# Altium integrated library Altium_Krebyy_Library.IntLib: 67 symbols (part 1 of 3)
Pins are listed as number, name and electrical type; pins without a type are passive.

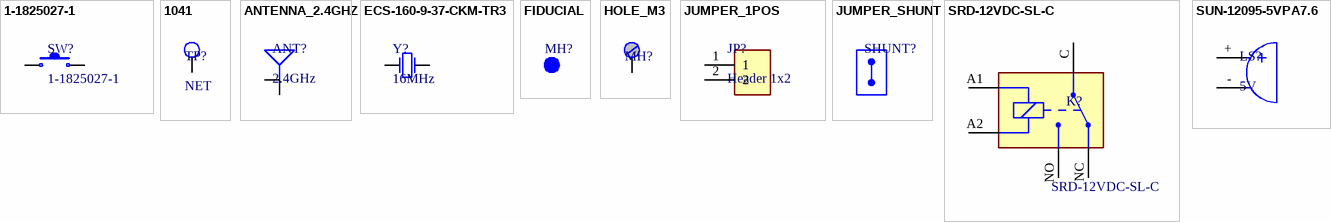
[diagram p0: symbols 1-1825027-1 to SUN-12095-5VPA7.6]

## 1-1825027-1
designator SW?
SWITCH TACTILE SPST-NO 5.74MM; Manufacturer: TE Connectivity; Actuator Color: Black; Mechanical Life: 100000Cycles; Actuator Material: PBT; Throw Configuration: SPST; Operating Force: 160gf; Illumination Type: Non-Illuminated; Max Voltage Rating (DC): 24V; Contact Current Rating: 50mA; Contact Resistance: 100mR; Switch Function: Off-Mom; Actuator Type: Standard; Switch Travel: 0.25mm; Supplier 1: Digi-Key; Manufacturer Part Number: 1-1825027-1; RoHS: Yes; Category: Pushbutton Switches; Stock 1: 125950; Pricing 1: 1=0,31000, 10=0,29500, 25=0,27960, 100=0,25320, 250=0,23084, 500=0,21456, 1000=0,18304, 3000=0,17795, 5000=0,16778 (USD); Mount: Through Hole; Contact Material: Copper Alloy; Contact Plating: Silver; Min Operating Temperature: -35°C; Max Operating Temperature: 85°C; Termination: PC Pins; Package Quantity: 1000; Packaging: Loose Piece; Orientation: Straight; Max Current Rating: 50mA; Electrical Life: 100000Cycles; Series: FSMRAJ, Alcoswitch; Type: Switch; Illumination Color: Black; Contact Type: 1 maker; Length: 7.11mm; Width: 6mm; Height: 7.3mm; Actuator Length: 5.74mm; Depth: 12.36mm; Radiation Hardening: No; RoHS Compliant: Yes; Lead Free: Lead Free; ELV: Compliant; ComponentLink1URL: https://datasheet.ciiva.com/30068/htmlsfsmra4jh04-0-30068654.pdf?src-supplier=Onlinecomponents.com; ComponentLink1Description: https://datasheet.ciiva.com/30068/htmlsfsmra4jh04-0-30068654.pdf?src-supplier=Onlinecomponents.com; ComponentLink2URL: https://datasheet.ciiva.com/17090/1-1825027-1-17090210.pdf?src-supplier=Allied+Electronics; ComponentLink2Description: https://datasheet.ciiva.com/17090/1-1825027-1-17090210.pdf?src-supplier=Allied+Electronics; ComponentLink3URL: https://datasheet.ciiva.com/26336/701759-da-01-en-tastschalter-fsmra4jh04-26336642.pdf?src-supplier=Conrad; ComponentLink3Description: https://datasheet.ciiva.com/26336/701759-da-01-en-tastschalter-fsmra4jh04-26336642.pdf?src-supplier=Conrad; ComponentLink4URL: https://datasheet.ciiva.com/16395/eng-cs-1308111-1-switches-core-program-catalog-0308-16395995.pdf?src-supplier=Future+Electronics; ComponentLink4Description: https://datasheet.ciiva.com/16395/eng-cs-1308111-1-switches-core-program-catalog-0308-16395995.pdf?src-supplier=Future+Electronics; ComponentLink5URL: https://datasheet.ciiva.com/15184/getdatasheetpartid-154947-15184428.pdf?src-supplier=Verical; ComponentLink5Description: https://datasheet.ciiva.com/15184/getdatasheetpartid-154947-15184428.pdf?src-supplier=Verical; ComponentLink6URL: https://datasheet.ciiva.com/45260/fsmseries-45260030.pdf?src-supplier=Digi-Key; ComponentLink6Description: https://datasheet.ciiva.com/45260/fsmseries-45260030.pdf?src-supplier=Digi-Key; Supplier 2: LCSC; Supplier Part Number 1: 450-1658-ND; Supplier Part Number 2: C266183; Case/Package: PTH-4
footprint SW_FSMRAJ
pins: 1, 2

## 1041
designator TP?, comment NET
TEST POINT LOOP; Manufacturer: Keystone Electronics; Manufacturer Part Number: 1041; Body Material: Brass; Plating: Tin; Hole Diameter: 1.27mm; Supplier 1: Digi-Key; RoHS: Yes; Category: Connectors; Stock 1: 18762; Pricing 1: 1=0,32000, 25=0,26320, 100=0,21480, 250=0,19288, 500=0,18410, 1000=0,15342, 2500=0,14027, 5000=0,13150 (USD); Mount: Through Hole,PCB; Contact Plating: Tin; Material: Brass,Tin; Contact Material: Brass; Package Quantity: 100; Series: -; Packaging: Bulk; Termination: Solder; Height: 0.63inch; RoHS Compliant: Yes; Lead Free: Lead Free; Reach SVHC Compliant: Yes; ComponentLink1URL: https://datasheet.ciiva.com/11836/0900766b800ac5a5-11836153.pdf?src-supplier=RSComponents; ComponentLink1Description: https://datasheet.ciiva.com/11836/0900766b800ac5a5-11836153.pdf?src-supplier=RSComponents; ComponentLink2URL: https://datasheet.ciiva.com/16291/m60-2p59-16291360.pdf?src-supplier=Future+Electronics; ComponentLink2Description: https://datasheet.ciiva.com/16291/m60-2p59-16291360.pdf?src-supplier=Future+Electronics; ComponentLink3URL: https://datasheet.ciiva.com/6946/m60p59-6946720.pdf?src-supplier=Newark; ComponentLink3Description: https://datasheet.ciiva.com/6946/m60p59-6946720.pdf?src-supplier=Newark; ComponentLink4URL: https://datasheet.ciiva.com/2917/1041-2917716.pdf?src-supplier=Digi-Key; ComponentLink4Description: https://datasheet.ciiva.com/2917/1041-2917716.pdf?src-supplier=Digi-Key; ComponentLink5URL: https://datasheet.ciiva.com/16885/70181606-16885226.pdf?src-supplier=Allied+Electronics; ComponentLink5Description: https://datasheet.ciiva.com/16885/70181606-16885226.pdf?src-supplier=Allied+Electronics; Supplier Part Number 1: 36-1041-ND; Case/Package: PTH-1
footprint TP_LOOP
pins: 1

## ANTENNA_2.4GHZ
designator ANT?, comment 2.4GHz  (no BOM)
SMALL SIZE 2.4 GHz PCB ANTENNA; Impedance: 50 Ohm; ComponentLink1Description: Datasheet; ComponentLink1URL: https://www.ti.com/lit/an/swra117d/swra117d.pdf; Category: Antenna; Frequency: 2.4GHz; Dimensions: 15.2 x 5.7 mm
footprint ANTENNA_2.4GHZ
pins: ANT, GND

## ECS-160-9-37-CKM-TR3
designator Y?, comment 16MHz
CRYSTAL 16.0000MHZ 10PPM 9PF SMD; Manufacturer: ECS International; Manufacturer Part Number: ECS-160-9-37-CKM-TR3; Supplier 1: Digi-Key; RoHS: No; Category: Crystal; Stock 1: 30907; Pricing 1: 1=0,42000, 10=0,35400, 50=0,31820, 100=0,28280, 500=0,26866, 1000=0,22624 (USD); Supplier Part Number 1: 50-ECS-160-9-37-CKM-TR3CT-ND; Case/Package: SMD-4
footprint CRYSTAL2016
pins: 1, 3

## FIDUCIAL
designator MH?, comment 1x2mm  (value not drawn)  (no BOM)
FIDUCIAL 1 X 2 MM; Category: Fiducials
footprint FIDUCIAL_1X2

## HOLE_M3
designator MH?, comment M3  (value not drawn)  (no BOM)
MOUNTING HOLE M3; Category: Mechanicals
footprint HOLE_M3
pins: 1

## JUMPER_1POS
designator JP?, comment Header 1x2
JUMPER 2PIN 1POS 2.54MM; Manufacturer: XFCN; Manufacturer Part Number: PZ254V-11-02P; Stock 1: 111950; Pricing 1: 50=0,01260, 500=0,01010, 2000=0,00870, 4000=0,00780, 24000=0,00710, 50000=0,00670 (USD); Category: Jumper; Supplier 1: LCSC; Supplier Part Number 1: C492401; Case/Package: PTH-2
footprint HEADER_1X2
pins: 1, 2

## JUMPER_SHUNT
designator SHUNT?
JUMPER SHUNT; Manufacturer: TE Connectivity AMP; Manufacturer Part Number: 881545-2; Supplier 1: Digi-Key; RoHS: Yes; Category: Jumper; Stock 1: 273858; Pricing 1: 1=0,32000, 10=0,27600, 25=0,24280, 50=0,22320, 100=0,21440, 250=0,19248, 500=0,18374, 1000=0,15312, 2500=0,14000 (USD); RoHS Compliant: Yes; ComponentLink1URL: https://www.te.com/commerce/DocumentDelivery/DDEController?Action=srchrtrv&amp;DocNm=881545&amp;DocType=Customer+Drawing&amp;DocLang=English&src-supplier=Digi-Key; ComponentLink1Description: https://www.te.com/commerce/DocumentDelivery/DDEController?Action=srchrtrv&amp;DocNm=881545&amp;DocType=Customer+Drawing&amp;DocLang=English&src-supplier=Digi-Key; Supplier Part Number 1: A26242-ND
footprint SHUNT

## SRD-12VDC-SL-C
designator K?, comment Manufacturer Part Number: SRD-12VDC-SL-C  (hidden comment: 12VDC)
RELAY 12V 15A SPDT; Manufacturer: Ningbo Forward Relay; Supplier 1: LCSC; RoHS: Yes; Category: Relays; Stock 1: 106554; Pricing 1: 1=0,35480, 10=0,28160, 30=0,24660, 100=0,21480, 500=0,20690, 1000=0,20050 (USD); Supplier Part Number 1: C30431; Maximum Switching Current: 15A; ComponentLink1Description: Datasheet; ComponentLink1URL: https://datasheet.lcsc.com/lcsc/1811111110_Ningbo-Songle-Relay-SRD-12VDC-SL-C_C30431.pdf; Coil Voltage: 12VDC; Case/Package: PTH-5
footprint RELAY_1C
pins: A1, A2, C, NC, NO

## SUN-12095-5VPA7.6
designator LS?, comment 5V
BUZZER MAGNETIC 5V 12MM PTH; Manufacturer: S&S; Manufacturer Part Number: SUN-12095-5VPA7.6; Oscillator Circuit: Active (driven circuit included); Frequency: 2700Hz; Pitch: 7.6mm; Supplier 1: LCSC; RoHS: Yes; Category: Audio Components; Stock 1: 20790; Pricing 1: 5=0,17770, 50=0,14110, 150=0,12330, 500=0,09670, 2500=0,09270, 5000=0,09040 (USD); Supplier Part Number 1: C360615; Height: 9.8mm; Diameter: 12mm; Rated  Voltage: 5V; ComponentLink1Description: Datasheet; ComponentLink1URL: https://datasheet.lcsc.com/lcsc/2108191230_S-S-SUN-12095-5VPA7-6_C360615.pdf; Case/Package: PTH-2
footprint BUZZER12076
pins: +, -


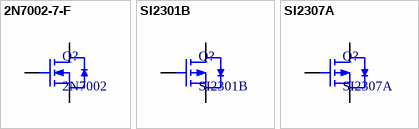
[diagram p1: symbols 2N7002-7-F to SI2307A]

## 2N7002-7-F
designator Q?, comment 2N7002
MOSFET N-CH 60V 115MA SOT23-3; Manufacturer: Diodes; Manufacturer Part Number: 2N7002-7-F; Nominal Vgs: 2.5V; Max Power Dissipation: 300mW; Rds On Max: 7.5R; Input Capacitance: 50pF; Number of Elements: 1; Drain to Source Breakdown Voltage: 70V; Gate to Source Voltage (Vgs): 20V; Turn-Off Delay Time: 11ns; Turn-On Delay Time: 7ns; Power Dissipation: 540mW; Element Configuration: Single; Polarity: N-CHANNEL; Rise Time: 3ns; Fall Time: 5.6ns; Supplier 1: Digi-Key; RoHS: Yes; Category: MOSFETs; Stock 1: 1719369; Pricing 1: 1=0,20000, 10=0,18600, 100=0,10140, 500=0,06236, 1000=0,04252 (USD); Mount: Surface Mount; Case/Package: SOT-23-3; Number of Pins: 3; Weight: 0.000282oz; Contact Plating: Tin,Matte; Min Operating Temperature: -55°C; Max Operating Temperature: 150°C; Drain to Source Voltage (Vdss): 60V; Continuous Drain Current (ID): 115mA; Packaging: Tape and Reel; Package Quantity: 1; Dual Supply Voltage: 60V; Number of Channels: 1; Drain to Source Resistance: 7.5R; On-State Resistance: 7.5R; Threshold Voltage: 2.5V; Termination: SMD/SMT; Voltage Rating (DC): 60V; Current Rating: 115mA; Series: -; Drain-source On Resistance-Max: 7.5R; Voltage: 60V; Length: 2.9mm; Width: 1.3mm; Height: 1mm; Radiation Hardening: No; Reach SVHC Compliant: Yes; Lead Free: Lead Free; RoHS Compliant: Yes; ComponentLink1URL: https://datasheet.ciiva.com/15219/getdatasheetpartid-110059-15219667.pdf?src-supplier=Verical; ComponentLink1Description: https://datasheet.ciiva.com/15219/getdatasheetpartid-110059-15219667.pdf?src-supplier=Verical; ComponentLink2URL: https://datasheet.ciiva.com/3304/ds11303-3304385.pdf?src-supplier=Avnet; ComponentLink2Description: https://datasheet.ciiva.com/3304/ds11303-3304385.pdf?src-supplier=Avnet; ComponentLink3URL: https://datasheet.ciiva.com/1188/ds11303-1188363.pdf?src-supplier=Element14; ComponentLink3Description: https://datasheet.ciiva.com/1188/ds11303-1188363.pdf?src-supplier=Element14; ComponentLink4URL: https://datasheet.ciiva.com/22712/1915452-22712375.pdf?src-supplier=Element14; ComponentLink4Description: https://datasheet.ciiva.com/22712/1915452-22712375.pdf?src-supplier=Element14; ComponentLink5URL: https://datasheet.ciiva.com/49020/70437206-49020102.pdf?src-supplier=Allied+Electronics; ComponentLink5Description: https://datasheet.ciiva.com/49020/70437206-49020102.pdf?src-supplier=Allied+Electronics; Supplier Part Number 1: 2N7002-FDICT-ND
footprint SOT-23-3
pins: 1 G, 2 S, 3 D

## SI2301B
designator Q?
MOSFET P-CH 20V 2.2A SOT23-3; Manufacturer: UWM; Continuous Drain Current (ID): 2.5A; Drain to Source Voltage (Vdss): -20V; Polarity: P-CHANNEL; Rds On Max: 120mR; Gate to Source Voltage (Vgs): 8V; Case/Package: SOT-23-3; Category: MOSFETs; Manufacturer Part Number: SI2301B; Drain to Source Breakdown Voltage: -20V; Supplier 1: LCSC; RoHS: Yes; Stock 1: 234500; Pricing 1: 20=0,018700, 200=0,015000, 600=0,012900, 3000=0,011600, 9000=0,010600, 21000=0,010000 (USD); Supplier Part Number 1: C359103; ComponentLink1Description: Datasheet; ComponentLink1URL: https://datasheet.lcsc.com/lcsc/2203071530_UMW-Youtai-Semiconductor-Co---Ltd--SI2301B_C359103.pdf
footprint SOT-23-3
pins: 1 G, 2 S, 3 D

## SI2307A
designator Q?
MOSFET P-CH 30V 3A SOT23-3; Manufacturer: UMW(Youtai Semiconductor Co., Ltd.); Supplier 1: LCSC; Manufacturer Part Number: SI2307A; Stock 1: 18550; Pricing 1: 10=0,04360, 100=0,03530, 300=0,03120, 3000=0,02810, 6000=0,02560, 9000=0,02440 (USD); Supplier Part Number 1: C347490; ComponentLink1Description: Datasheet; ComponentLink1URL: https://datasheet.lcsc.com/lcsc/2209201030_UMW-Youtai-Semiconductor-Co---Ltd--SI2307A_C347490.pdf; Category: MOSFETs; Case/Package: SOT-23-3
footprint SOT-23-3
pins: 1 G, 2 S, 3 D


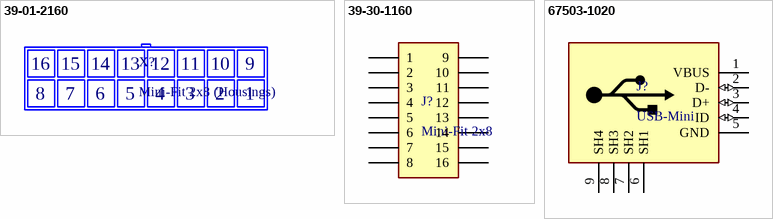
[diagram p2: symbols 39-01-2160 to 67503-1020]

## 39-01-2160
designator X?, comment Mini-Fit 2x8 (Housings)
CONN RCPT HSG 16POS 4.20MM; Manufacturer: Molex; Connector Type: Receptacle,Power,Rectangular; Gender: Receptacle; Max Voltage Rating (DC): 600V; Number of Positions: 16; Contact Resistance: 10mR; Current Rating: 13A; Voltage Rating (AC): 250V; Pitch: 4.2mm; Row Spacing: 0.165inch; Approvals: UL,CSA,TUV; Glow Wire Compliant: Non-compliant; Supplier 1: Digi-Key; Manufacturer Part Number: 39-01-2160; RoHS: Yes; Category: Headers and Wire Housings; Stock 1: 27697; Pricing 1: 1=0,76000, 10=0,63100, 100=0,52620, 1000=0,42097, 2500=0,38150 (USD); Mount: Free Hanging,Cable; Color: Natural; Housing Material: Nylon; Material: Nylon; Housing Color: Natural; Min Operating Temperature: -40°C; Max Operating Temperature: 105°C; Packaging: Bulk; Termination: Crimp; Orientation: Straight; Series: Mini-Fit® Jr™ 5557; Number of Rows: 2; Number of Contacts: 16; Fastening Type: Latch; Number of Poles: 16; Contact Gender: Female; Package Quantity: 250; Voltage Rating: 600V; Working Voltage: 250V; Contact Type: Female Socket; Max Voltage Rating (AC): 600V; Length: 34.8mm; Width: 15.1mm; Depth: 19.6mm; Radiation Hardening: No; RoHS Compliant: Yes; Halogen Free: Low Halogen; Lead Free: Lead Free; Flammability Rating: UL94 V-2; ComponentLink1URL: https://datasheet.ciiva.com/30103/0039012160-crimp-housings-30103557.pdf?src-supplier=Onlinecomponents.com; ComponentLink1Description: https://datasheet.ciiva.com/30103/0039012160-crimp-housings-30103557.pdf?src-supplier=Onlinecomponents.com; ComponentLink2URL: https://datasheet.ciiva.com/16127/700039012160-crimp-housings-16127229.pdf?src-supplier=Onlinecomponents.com; ComponentLink2Description: https://datasheet.ciiva.com/16127/700039012160-crimp-housings-16127229.pdf?src-supplier=Onlinecomponents.com; ComponentLink3URL: https://datasheet.ciiva.com/5159/0039012160-crimp-housings-140014-5159610.pdf?src-supplier=Mouser; ComponentLink3Description: https://datasheet.ciiva.com/5159/0039012160-crimp-housings-140014-5159610.pdf?src-supplier=Mouser; ComponentLink4URL: https://datasheet.ciiva.com/11740/0900766b8002166a-11740658.pdf?src-supplier=RSComponents; ComponentLink4Description: https://datasheet.ciiva.com/11740/0900766b8002166a-11740658.pdf?src-supplier=RSComponents; ComponentLink5URL: https://datasheet.ciiva.com/1446/1637266-1446512.pdf?src-supplier=Element14; ComponentLink5Description: https://datasheet.ciiva.com/1446/1637266-1446512.pdf?src-supplier=Element14; ComponentLink6URL: https://datasheet.ciiva.com/18453/70190671-18453707.pdf?src-supplier=Allied+Electronics; ComponentLink6Description: https://datasheet.ciiva.com/18453/70190671-18453707.pdf?src-supplier=Allied+Electronics; ComponentLink7URL: https://datasheet.ciiva.com/10392/0039012160-crimp-housings-10392206.pdf?src-supplier=Avnet; ComponentLink7Description: https://datasheet.ciiva.com/10392/0039012160-crimp-housings-10392206.pdf?src-supplier=Avnet; Supplier Part Number 1: WM3707-ND; Case/Package: CABLE-16
footprint 39-01-2160
text: 15; 14; 13; 12; 11; 10; 9; 8; 7; 6; 5; 4; 3; 1

## 39-30-1160
designator J?, comment Mini-Fit 2x8
CONN HEADER R/A 16POS 4.2MM; Manufacturer: Molex; Number of Contacts: 16; Contact Resistance: 10mR; Current Rating: 13A; Connector Type: Power,Rectangular; Gender: Male; Insulation Resistance: 1GR; Mating Cycles: 30; Voltage Rating (AC): 600V; Max Current Rating: 6A; Approvals: UL,CSA,TUV; Supplier 1: Digi-Key; Manufacturer Part Number: 39-30-1160; RoHS: Yes; Category: Headers and Wire Housings; Stock 1: 5712; Pricing 1: 1=2,85000, 10=2,50500, 100=1,99290, 1000=1,65122, 5000=1,48041 (USD); Mount: Through Hole; Contact Material: Brass; Contact Plating: Copper,Tin; Housing Material: Nylon; Color: Natural; Housing Color: Natural; Material: Nylon; Min Operating Temperature: -40°C; Max Operating Temperature: 105°C; Termination: Solder; Orientation: Right Angle; Number of Rows: 2; Series: Mini-Fit Jr.; Packaging: Bag; Number of Positions: 16; Number of Poles: 16; Voltage Rating: 600V; Package Quantity: 800; Contact Gender: Male; Working Voltage: 600V; Max Voltage Rating (AC): 600V; Voltage Rating (DC): 600V; Length: 34.8mm; Height: 11.4mm; Pitch: 4.2mm; Row Spacing: 4.2mm; Depth: 19.4mm; Radiation Hardening: No; ELV: Compliant; Lead Free: Lead Free; Flammability Rating: UL94 V-2; RoHS Compliant: Yes; ComponentLink1URL: https://datasheet.ciiva.com/19462/1969260-19462101.pdf?src-supplier=Jameco; ComponentLink1Description: https://datasheet.ciiva.com/19462/1969260-19462101.pdf?src-supplier=Jameco; ComponentLink2URL: https://datasheet.ciiva.com/1488/1786383-1488989.pdf?src-supplier=Newark; ComponentLink2Description: https://datasheet.ciiva.com/1488/1786383-1488989.pdf?src-supplier=Newark; ComponentLink3URL: https://datasheet.ciiva.com/11750/0900766b805f2e93-11750195.pdf?src-supplier=RSComponents; ComponentLink3Description: https://datasheet.ciiva.com/11750/0900766b805f2e93-11750195.pdf?src-supplier=RSComponents; ComponentLink4URL: https://datasheet.ciiva.com/43510/53970039301160-pcb-headers-43510555.pdf?src-supplier=Onlinecomponents.com; ComponentLink4Description: https://datasheet.ciiva.com/43510/53970039301160-pcb-headers-43510555.pdf?src-supplier=Onlinecomponents.com; Supplier Part Number 1: WM1358-ND; Case/Package: PTH-16
footprint 39-30-1160
pins: 1, 2, 3, 4, 5, 6, 7, 8, 9, 10, 11, 12, 13, 14, 15, 16

## 67503-1020
designator J?, comment USB-Mini
CONN RCPT USB2.0 MINI B SMD R/A; Manufacturer: Molex; Manufacturer Part Number: 67503-1020; Number of Terminals/Pins: 5; Gender: Receptacle; Connector Type: USB,Receptacle; Number of Ports: 1; Insulation Resistance: 100MR; Current Rating: 1A; Shielding: Shielded; Voltage Rating: 30V; Contact Resistance: 50mR; Max Voltage Rating (DC): 3.03kV; Data Rate: 480Mbps; Number of Logic Blocks (LABs): 56480; Number of Logic Elements/Cells: 149500; RAM Size: 7880704b; Number of I/Os: 240; Pitch: 0.8mm; Glow Wire Compliant: Non-compliant; RoHS: Yes; Category: USB Connectors; Stock 1: 29165; Pricing 1: 1=1,20000, 10=0,99300, 100=0,82720 (USD); Case/Package: SMD-9; Contact Plating: Gold; Contact Material: Bronze,Copper Alloy,Copper; Color: Black,Grey; Insulation Color: Black; Housing Material: Nylon; Min Operating Temperature: 0°C; Max Operating Temperature: 50°C; Packaging: Tape and Reel; Termination: Solder; Number of Contacts: 5; Orientation: Right Angle; Series: 67503; Package Quantity: 1; Number of Positions: 5; USB Standard: USB 2.0; Features: Shielded; Number of Circuits: 5; Number of Rows: 1; Max Voltage Rating (AC): 30V; Working Voltage: 30V; Voltage Rating (AC): 30V; Length: 9.9mm; Width: 6.9mm; Depth: 9mm; Terminal Pitch: 0.8mm; Radiation Hardening: No; Flammability Rating: UL94 V-0; Lead Free: Lead Free; RoHS Compliant: Yes; ComponentLink2URL: https://datasheet.ciiva.com/16143/1693580675031020-io-nectors-16143316.pdf?src-supplier=Onlinecomponents.com; ComponentLink2Description: https://datasheet.ciiva.com/16143/1693580675031020-io-nectors-16143316.pdf?src-supplier=Onlinecomponents.com; Supplier 1: LCSC; Supplier 2: Digi-Key; Supplier Part Number 1: C2681563; Supplier Part Number 2: WM5461CT-ND
footprint 67503-1020
pins: 1 VBUS (power), 2 D- (io), 3 D+ (io), 4 ID (io), 5 GND (power), 6 SH1, 7 SH2, 8 SH3, 9 SH4


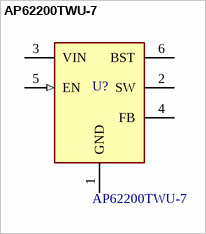
[diagram p3: symbol AP62200TWU-7]

## AP62200TWU-7
designator U?, comment Manufacturer Part Number: AP62200TWU-7  (hidden comment: AP62200TWU)
DCDC BUCK 2A TSOT26; Manufacturer: Diodes; Supplier 1: Digi-Key; RoHS: Yes; Category: Voltage Regulators - Switching; Stock 1: 20639; Pricing 1: 1=0,47000, 10=0,38400, 25=0,35080, 100=0,26120, 250=0,23668, 500=0,19588, 1000=0,14692 (USD); Supplier Part Number 1: 31-AP62200TWU-7CT-ND; Case/Package: TSOT-26-6
footprint TSOT-26
pins: 1 GND (power), 2 SW, 3 VIN (power), 4 FB, 5 EN (in), 6 BST


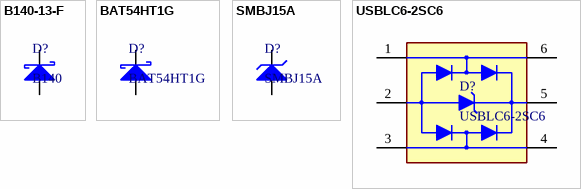
[diagram p4: symbols B140-13-F to USBLC6-2SC6]

## B140-13-F
designator D?, comment B140
DIODE SCHOTTKY 40V 1A SMA; Manufacturer: Diodes; Manufacturer Part Number: B140-13-F; Element Configuration: Single; Max Reverse Current: 500uA; Forward Voltage: 500mV; Peak Non-Repetitive Surge Current: 30A; Polarity: Standard; Capacitance: 110pF; Supplier 1: Digi-Key; RoHS: Yes; Category: Rectifier Diodes; Stock 1: 636586; Pricing 1: 1=0,40000, 10=0,32600, 100=0,17260, 500=0,11356, 1000=0,07722, 2000=0,06965 (USD); Mount: Surface Mount; Case/Package: SMA; Number of Pins: 2; Weight: 0.004233oz; Contact Plating: Tin,Matte; Min Operating Temperature: -65°C; Max Operating Temperature: 150°C; Forward Current: 1A; Max Repetitive Reverse Voltage (Vrrm): 40V; Packaging: Cut Tape; Max Forward Surge Current (Ifsm): 30A; Package Quantity: 5000; Average Rectified Current: 1A; Termination: SMD/SMT; Voltage Rating (DC): 40V; Current Rating: 1A; Output Current: 1A; Max Reverse Voltage (DC): 40V; Series: -; Length: 4.6mm; Width: 2.92mm; Height: 2.1mm; Radiation Hardening: No; Reach SVHC Compliant: Yes; Lead Free: Lead Free; RoHS Compliant: Yes; ComponentLink1URL: https://datasheet.ciiva.com/15220/getdatasheetpartid-115924-15220197.pdf?src-supplier=Verical; ComponentLink1Description: https://datasheet.ciiva.com/15220/getdatasheetpartid-115924-15220197.pdf?src-supplier=Verical; ComponentLink2URL: https://datasheet.ciiva.com/912/ds13002-912361.pdf?src-supplier=Digi-Key; ComponentLink2Description: https://datasheet.ciiva.com/912/ds13002-912361.pdf?src-supplier=Digi-Key; ComponentLink3URL: https://datasheet.ciiva.com/912/ds13002-912362.pdf?src-supplier=Digi-Key; ComponentLink3Description: https://datasheet.ciiva.com/912/ds13002-912362.pdf?src-supplier=Digi-Key; ComponentLink4URL: https://datasheet.ciiva.com/912/ds13002-912360.pdf?src-supplier=Digi-Key; ComponentLink4Description: https://datasheet.ciiva.com/912/ds13002-912360.pdf?src-supplier=Digi-Key; Supplier Part Number 1: B140-FDIDKR-ND
footprint SMA
pins: A, K

## BAT54HT1G
designator D?
DIODE SCHOTTKY 30V 200MA SOD323; Manufacturer: ON Semiconductor / Fairchild; Forward Voltage: 800mV; Recovery Time: 5ns; Peak Non-Repetitive Surge Current: 600mA; Element Configuration: Single; Max Reverse Current: 2uA; Power Dissipation: 200mW; Polarity: Standard; Capacitance: 10pF; Manufacturer Part Number: BAT54HT1G; RoHS: Yes; Category: Schottky Diodes; Stock 1: 158323; Pricing 1: 1=0,24000, 10=0,19900, 100=0,10570, 500=0,06956, 1000=0,04730 (USD); Mount: Surface Mount; Number of Pins: 2; Contact Plating: Tin,Matte; Min Operating Temperature: -55°C; Max Operating Temperature: 150°C; Packaging: Tape and Reel; Package Quantity: 1; Series: -; Forward Current: 200mA; Average Rectified Current: 200mA; Reverse Recovery Time: 5ns; Max Repetitive Reverse Voltage (Vrrm): 30V; Max Forward Surge Current (Ifsm): 600mA; Max Reverse Voltage (DC): 30V; Max Surge Current: 600mA; Voltage Rating (DC): 30V; Current Rating: 200mA; Output Current: 200mA; Reverse Voltage: 30V; Max Reverse Leakage Current: 2uA; Reverse Recovery Time-Max: 5ns; Length: 1.8mm; Width: 1.35mm; Height: 1mm; Radiation Hardening: No; Lead Free: Lead Free; RoHS Compliant: Yes; Reach SVHC Compliant: Yes; ComponentLink1URL: https://datasheet.ciiva.com/4714/bat54ht1-d-72881-4714706.pdf?src-supplier=Mouser; ComponentLink1Description: https://datasheet.ciiva.com/4714/bat54ht1-d-72881-4714706.pdf?src-supplier=Mouser; ComponentLink2URL: https://datasheet.ciiva.com/4452/bat54ht1g-104602-4452889.pdf?src-supplier=Mouser; ComponentLink2Description: https://datasheet.ciiva.com/4452/bat54ht1g-104602-4452889.pdf?src-supplier=Mouser; ComponentLink3URL: https://datasheet.ciiva.com/30479/0900766b811a63a9-30479442.pdf?src-supplier=RSComponents; ComponentLink3Description: https://datasheet.ciiva.com/30479/0900766b811a63a9-30479442.pdf?src-supplier=RSComponents; ComponentLink4URL: https://datasheet.ciiva.com/34301/806549-34301562.pdf?src-supplier=Jameco; ComponentLink4Description: https://datasheet.ciiva.com/34301/806549-34301562.pdf?src-supplier=Jameco; ComponentLink5URL: https://datasheet.ciiva.com/1240/1747983-1240762.pdf?src-supplier=Newark; ComponentLink5Description: https://datasheet.ciiva.com/1240/1747983-1240762.pdf?src-supplier=Newark; ComponentLink6URL: https://datasheet.ciiva.com/915/bat54ht1-d-915445.pdf?src-supplier=Digi-Key; ComponentLink6Description: https://datasheet.ciiva.com/915/bat54ht1-d-915445.pdf?src-supplier=Digi-Key; ComponentLink7URL: https://datasheet.ciiva.com/915/bat54ht1-d-915444.pdf?src-supplier=Digi-Key; ComponentLink7Description: https://datasheet.ciiva.com/915/bat54ht1-d-915444.pdf?src-supplier=Digi-Key; ComponentLink8URL: https://datasheet.ciiva.com/910/bat54ht1g-910499.pdf?src-supplier=Digi-Key; ComponentLink8Description: https://datasheet.ciiva.com/910/bat54ht1g-910499.pdf?src-supplier=Digi-Key; ComponentLink9URL: https://datasheet.ciiva.com/910/bat54ht1g-910498.pdf?src-supplier=Digi-Key; ComponentLink9Description: https://datasheet.ciiva.com/910/bat54ht1g-910498.pdf?src-supplier=Digi-Key; ComponentLink10URL: https://datasheet.ciiva.com/8294/bat54ht1-d-8294645.pdf?src-supplier=Avnet; ComponentLink10Description: https://datasheet.ciiva.com/8294/bat54ht1-d-8294645.pdf?src-supplier=Avnet; ComponentLink11URL: https://datasheet.ciiva.com/910/bat54ht1g-910497.pdf?src-supplier=Digi-Key; ComponentLink11Description: https://datasheet.ciiva.com/910/bat54ht1g-910497.pdf?src-supplier=Digi-Key; ComponentLink12URL: https://datasheet.ciiva.com/8303/bat54ht1g-8303645.pdf?src-supplier=Avnet; ComponentLink12Description: https://datasheet.ciiva.com/8303/bat54ht1g-8303645.pdf?src-supplier=Avnet; ComponentLink13URL: https://datasheet.ciiva.com/915/bat54ht1-d-915443.pdf?src-supplier=Digi-Key; ComponentLink13Description: https://datasheet.ciiva.com/915/bat54ht1-d-915443.pdf?src-supplier=Digi-Key; ComponentLink14URL: https://datasheet.ciiva.com/46429/1727620-46429206.pdf?src-supplier=Element14; ComponentLink14Description: https://datasheet.ciiva.com/46429/1727620-46429206.pdf?src-supplier=Element14; ComponentLink15URL: https://datasheet.ciiva.com/1180/bat54ht1-d-1180252.pdf?src-supplier=Element14; ComponentLink15Description: https://datasheet.ciiva.com/1180/bat54ht1-d-1180252.pdf?src-supplier=Element14; ComponentLink16URL: https://datasheet.ciiva.com/1180/bat54ht1-d-1180251.pdf?src-supplier=Element14; ComponentLink16Description: https://datasheet.ciiva.com/1180/bat54ht1-d-1180251.pdf?src-supplier=Element14; ComponentLink17URL: https://datasheet.ciiva.com/17020/bat54ht1g-17020445.pdf?src-supplier=Future+Electronics; ComponentLink17Description: https://datasheet.ciiva.com/17020/bat54ht1g-17020445.pdf?src-supplier=Future+Electronics; ComponentLink18URL: https://datasheet.ciiva.com/48686/001262925-da-01-en-diode-schottky-30v-bat54ht1g-sod-323-fsc-48686266.pdf?src-supplier=Conrad; ComponentLink18Description: https://datasheet.ciiva.com/48686/001262925-da-01-en-diode-schottky-30v-bat54ht1g-sod-323-fsc-48686266.pdf?src-supplier=Conrad; Supplier 1: LCSC; Supplier 2: Digi-Key; Supplier Part Number 1: C21107; Supplier Part Number 2: BAT54HT1GOSCT-ND; Case/Package: SOD-323-2
footprint SOD-323-2
pins: A, K

## SMBJ15A
designator D?
TVS DIODE UNI 15V 600W SMB; Manufacturer: Littelfuse; Max Surge Current: 24.6A; Number of Unidirectional Channels: 1; Min Breakdown Voltage: 16.7V; Clamping Voltage: 24.4V; Power Line Protection: No; Polarity: Unidirectional; Max Breakdown Voltage: 18.5V; Diode Type: ZENER; Test Current: 1mA; Leakage Current: 1uA; Max Power Dissipation: 5W; Element Configuration: Single; Manufacturer Part Number: SMBJ15A; RoHS: Yes; Category: TVS Diodes; Stock 1: 252319; Pricing 1: 1=0,41000, 10=0,30700, 100=0,19150, 500=0,13104, 1000=0,10080 (USD); Mount: Surface Mount; Case/Package: SMB; Number of Pins: 2; Min Operating Temperature: -65°C; Max Operating Temperature: 150°C; Packaging: Tape and Reel; Power Dissipation: 600W; Voltage Rating (DC): 15V; Package Quantity: 3000; Operating Supply Voltage: 15V; Reverse Standoff Voltage: 15V; Peak Pulse Power: 600W; Breakdown Voltage: 16.7V; Number of Channels: 1; Peak Pulse Current: 24.6A; Series: SMBJ; Direction: Unidirectional; Reverse Breakdown Voltage: 16.7V; Number of Elements: 1; Termination: SMD/SMT; Resistor Type: Zener; Clamping Voltage-Max: 24.4V; Max Reverse Leakage Current: 1uA; Length: 4.57mm; Width: 3.94mm; Height: 2.237mm; Radiation Hardening: No; Lead Free: Lead Free; RoHS Compliant: Yes; ComponentLink1URL: https://datasheet.ciiva.com/34301/1078555-34301957.pdf?src-supplier=Jameco; ComponentLink1Description: https://datasheet.ciiva.com/34301/1078555-34301957.pdf?src-supplier=Jameco; ComponentLink2URL: https://datasheet.ciiva.com/25624/0900766b810f4eeb-25624826.pdf?src-supplier=RSComponents; ComponentLink2Description: https://datasheet.ciiva.com/25624/0900766b810f4eeb-25624826.pdf?src-supplier=RSComponents; ComponentLink3URL: https://datasheet.ciiva.com/46385/13057-46385079.pdf?src-supplier=Element14; ComponentLink3Description: https://datasheet.ciiva.com/46385/13057-46385079.pdf?src-supplier=Element14; ComponentLink4URL: https://datasheet.ciiva.com/331/littelfuse-tvs-diode-smbj-datasheet-pdf-331177.pdf?src-supplier=Digi-Key; ComponentLink4Description: https://datasheet.ciiva.com/331/littelfuse-tvs-diode-smbj-datasheet-pdf-331177.pdf?src-supplier=Digi-Key; ComponentLink5URL: https://datasheet.ciiva.com/331/littelfuse-tvs-diode-smbj-datasheet-pdf-331178.pdf?src-supplier=Digi-Key; ComponentLink5Description: https://datasheet.ciiva.com/331/littelfuse-tvs-diode-smbj-datasheet-pdf-331178.pdf?src-supplier=Digi-Key; ComponentLink6URL: https://datasheet.ciiva.com/331/littelfuse-tvs-diode-smbj-datasheet-pdf-331176.pdf?src-supplier=Digi-Key; ComponentLink6Description: https://datasheet.ciiva.com/331/littelfuse-tvs-diode-smbj-datasheet-pdf-331176.pdf?src-supplier=Digi-Key; Supplier 1: LCSC; Supplier 2: Digi-Key; Supplier Part Number 1: C188412; Supplier Part Number 2: SMBJ15ALFCT-ND
footprint SMB
pins: A, K

## USBLC6-2SC6
designator D?
TVS DIODE ARRAY 5V SOT23-6; Manufacturer: STMicroelectronics; Direction: Unidirectional,Bidirectional; Capacitance: 3.5pF; Operating Supply Voltage: 1.1V; Number of Channels: 2; Breakdown Voltage: 6V; Clamping Voltage: 17V; Reverse Standoff Voltage: 5.25V; Power Line Protection: Yes; Test Current: 1mA; Max Reverse Leakage Current: 150nA; Peak Pulse Current: 5A; Element Configuration: Dual; Data Rate: 480Mbps; Number of Elements: 1; Manufacturer Part Number: USBLC6-2SC6; RoHS: Yes; Category: TVS Diodes; Stock 1: 151282; Pricing 1: 1=0,62000, 10=0,52700, 100=0,39340, 500=0,30908, 1000=0,23883 (USD); Mount: Surface Mount; Case/Package: SOT-23-6; Number of Pins: 6; Contact Plating: Tin,Matte; Min Operating Temperature: -40°C; Max Operating Temperature: 125°C; Packaging: Tape and Reel; Package Quantity: 3000; Termination: SMD/SMT; Number of Bidirectional Channels: 2; Min Breakdown Voltage: 6V; ESD Protection: Yes; Leakage Current: 150nA; Series: USB; Reverse Breakdown Voltage: 6V; Polarity: Unidirectional,Bidirectional; Working Voltage: 5V; Max Breakdown Voltage: 6V; Clamping Voltage-Max: 17V; Length: 3.05mm; Width: 1.75mm; Height: 1.3mm; Depth: 1.75mm; Radiation Hardening: No; Reach SVHC Compliant: Yes; Lead Free: Lead Free; RoHS Compliant: Yes; ComponentLink1URL: https://datasheet.ciiva.com/1268/1690354-1268384.pdf?src-supplier=Element14; ComponentLink1Description: https://datasheet.ciiva.com/1268/1690354-1268384.pdf?src-supplier=Element14; ComponentLink2URL: https://datasheet.ciiva.com/4508/cd00050750-113117-4508433.pdf?src-supplier=Mouser; ComponentLink2Description: https://datasheet.ciiva.com/4508/cd00050750-113117-4508433.pdf?src-supplier=Mouser; ComponentLink3URL: https://datasheet.ciiva.com/15143/getdatasheetpartid-148465-15143789.pdf?src-supplier=Verical; ComponentLink3Description: https://datasheet.ciiva.com/15143/getdatasheetpartid-148465-15143789.pdf?src-supplier=Verical; ComponentLink4URL: https://datasheet.ciiva.com/16200/cd00050750-16200026.pdf?src-supplier=Future+Electronics; ComponentLink4Description: https://datasheet.ciiva.com/16200/cd00050750-16200026.pdf?src-supplier=Future+Electronics; ComponentLink5URL: https://datasheet.ciiva.com/41444/001184109-da-01-en-ic-esd-protecti-usblc6-2sc6-sot-23-6-stm-41444156.pdf?src-supplier=Conrad; ComponentLink5Description: https://datasheet.ciiva.com/41444/001184109-da-01-en-ic-esd-protecti-usblc6-2sc6-sot-23-6-stm-41444156.pdf?src-supplier=Conrad; Stock 2: 102180; Pricing 2: 10=0,06580, 100=0,05370, 300=0,04760, 3000=0,04310, 6000=0,03950, 9000=0,03770 (USD); Supplier 1: LCSC; Supplier 2: Digi-Key; Supplier Part Number 1: C2827654; Supplier Part Number 2: 497-5235-1-ND
footprint SOT-23-6
pins: 1 IO1, 2 GND (power), 3 IO2, 4 IO2, 5 VBUS (power), 6 IO1


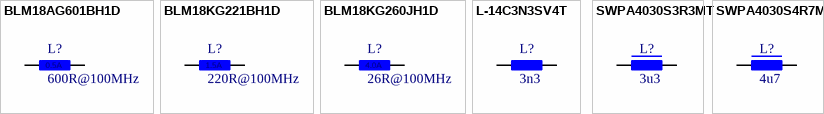
[diagram p5: symbols BLM18AG601BH1D to SWPA4030S4R7MT]

## BLM18AG601BH1D
designator L?, comment 600R@100MHz
FERRITE BEAD 600 OHM 0603; Manufacturer: Murata; Manufacturer Part Number: BLM18AG601BH1D; Number of Lines: 1; Max Current Rating: 500mA; DC Resistance (DCR): 380mR; Supplier 1: Digi-Key; RoHS: Yes; Category: Ferrite Beads and Chips; Stock 1: 19274; Pricing 1: 1=0,11000, 10=0,09100, 25=0,07080, 50=0,05860, 100=0,05050, 250=0,04040, 500=0,03636, 1000=0,03030 (USD); Case/Package: 0603; Case Code (Metric): 1608; Case Code (Imperial): 0603; Min Operating Temperature: -55°C; Max Operating Temperature: 150°C; Ratings: AEC-Q200; RoHS Compliant: Yes; ComponentLink1URL: https://www.mouser.com/ds/2/281/LM18AG601BH1%23-962372.pdf?src-supplier=Mouser; ComponentLink1Description: https://www.mouser.com/ds/2/281/LM18AG601BH1%23-962372.pdf?src-supplier=Mouser; ComponentLink2URL: http://www.murata.com/en-us/products/productdata/8798137286686/QNFA9129.pdf?src-supplier=Digi-Key; ComponentLink2Description: http://www.murata.com/en-us/products/productdata/8798137286686/QNFA9129.pdf?src-supplier=Digi-Key; ComponentLink3URL: https://www.murata.com/en-us/products/productdata/8796733866014/S0594E.pdf?src-supplier=Digi-Key; ComponentLink3Description: https://www.murata.com/en-us/products/productdata/8796733866014/S0594E.pdf?src-supplier=Digi-Key; Supplier Part Number 1: 490-14039-1-ND
footprint L0603
pins: 1, 2
text: 0.5A

## BLM18KG221BH1D
designator L?, comment 220R@100MHz
FERRITE BEAD 220 OHM 0603; Manufacturer: Murata; Manufacturer Part Number: BLM18KG221BH1D; Number of Lines: 1; Max Current Rating: 1.5A; DC Resistance (DCR): 50mR; Supplier 1: Digi-Key; RoHS: Yes; Category: Ferrite Beads and Chips; Stock 1: 10545; Pricing 1: 1=0,11000, 10=0,08600, 25=0,07720, 50=0,05660, 100=0,04890, 250=0,03864, 500=0,03262, 1000=0,02747 (USD); Case/Package: 0603; Case Code (Metric): 1608; Case Code (Imperial): 0603; Min Operating Temperature: -55°C; Max Operating Temperature: 150°C; Ratings: AEC-Q200; RoHS Compliant: Yes; ComponentLink1URL: http://www.murata.com/en-us/products/productdata/8798137286686/QNFA9129.pdf?src-supplier=Digi-Key; ComponentLink1Description: http://www.murata.com/en-us/products/productdata/8798137286686/QNFA9129.pdf?src-supplier=Digi-Key; ComponentLink2URL: https://www.murata.com/en-us/products/productdata/8796733866014/S0594E.pdf?src-supplier=Digi-Key; ComponentLink2Description: https://www.murata.com/en-us/products/productdata/8796733866014/S0594E.pdf?src-supplier=Digi-Key; Supplier Part Number 1: 490-14029-1-ND
footprint L0603
pins: 1, 2

## BLM18KG260JH1D
designator L?, comment 26R@100MHz
FERRITE BEAD 26 OHM 0603; Manufacturer: Murata; Manufacturer Part Number: BLM18KG260JH1D; Number of Lines: 1; Max Current Rating: 4A; DC Resistance (DCR): 7mR; Supplier 1: Digi-Key; RoHS: Yes; Category: Ferrite Beads and Chips; Stock 1: 23296; Pricing 1: 1=0,11000, 10=0,08600, 25=0,07720, 50=0,05660, 100=0,04890, 250=0,03864, 500=0,03262, 1000=0,02747 (USD); Case/Package: 0603; Case Code (Metric): 1608; Case Code (Imperial): 0603; Min Operating Temperature: -55°C; Max Operating Temperature: 150°C; Ratings: AEC-Q200; RoHS Compliant: Yes; ComponentLink1URL: http://www.murata.com/en-us/products/productdata/8798137286686/QNFA9129.pdf?src-supplier=Digi-Key; ComponentLink1Description: http://www.murata.com/en-us/products/productdata/8798137286686/QNFA9129.pdf?src-supplier=Digi-Key; ComponentLink2URL: https://www.murata.com/en-us/products/productdata/8796733866014/S0594E.pdf?src-supplier=Digi-Key; ComponentLink2Description: https://www.murata.com/en-us/products/productdata/8796733866014/S0594E.pdf?src-supplier=Digi-Key; Supplier Part Number 1: 490-14026-1-ND
footprint L0603
pins: 1, 2
text: 4.0A

## L-14C3N3SV4T
designator L?, comment 3n3
FIXED IND 3.3NH 300MA 0603; Manufacturer: Johanson; Manufacturer Part Number: L-14C3N3SV4T; Core Material: Ceramic; Shielding: Unshielded; Q Factor: 12; DC Resistance (DCR): 250mR; Self Resonant Frequency: 6.5GHz; Test Frequency: 100MHz; Supplier 1: Digi-Key; RoHS: Yes; Category: Fixed Inductors; Stock 1: 80606; Pricing 1: 1=0,10000, 10=0,05700, 25=0,05040, 50=0,04300, 100=0,03790, 250=0,03472, 500=0,03156, 1000=0,02651 (USD); Mount: Surface Mount; Case/Package: 0603; Number of Pins: 2; Case Code (Metric): 1608; Case Code (Imperial): 0603; Weight: 0.000141oz; Min Operating Temperature: -40°C; Max Operating Temperature: 100°C; Packaging: Tape and Reel; Package Quantity: 4000; Current Rating: 300mA; Inductance: 3.3nH; Max DC Current: 300mA; Termination: SMD/SMT; Resistor Type: Ceramic; DC Current: 300mA; Series: -; Length: 1.6mm; Width: 0.8mm; Height: 0.8mm; Height - Seated (Max): 0.037inch; Depth: 0.95mm; Radiation Hardening: No; Reach SVHC Compliant: Yes; Military Standard: Not; RoHS Compliant: Yes; ComponentLink1URL: http://components.arrow.com/part/dataview/44115441S99353N2069?src-supplier=Arrow+Electronics; ComponentLink1Description: http://components.arrow.com/part/dataview/44115441S99353N2069?src-supplier=Arrow+Electronics; ComponentLink2URL: http://www.mouser.com/ds/2/611/jti-cat-rf-ind-844822.pdf?src-supplier=Mouser; ComponentLink2Description: http://www.mouser.com/ds/2/611/jti-cat-rf-ind-844822.pdf?src-supplier=Mouser; ComponentLink3URL: http://www.farnell.com/datasheets/2372621.pdf?src-supplier=Farnell; ComponentLink3Description: http://www.farnell.com/datasheets/2372621.pdf?src-supplier=Farnell; ComponentLink4URL: http://www.farnell.com/datasheets/1327494.pdf?src-supplier=Farnell; ComponentLink4Description: http://www.farnell.com/datasheets/1327494.pdf?src-supplier=Farnell; ComponentLink5URL: https://www.johansontechnology.com/downloads/jti-cat-rf-ind.pdf?src-supplier=Digi-Key; ComponentLink5Description: https://www.johansontechnology.com/downloads/jti-cat-rf-ind.pdf?src-supplier=Digi-Key; ComponentLink6URL: http://www.johansontechnology.com/images/stories/rf-inductors/cci/JTI_CAT_2012_Inductors_Chip.pdf?src-supplier=Avnet; ComponentLink6Description: http://www.johansontechnology.com/images/stories/rf-inductors/cci/JTI_CAT_2012_Inductors_Chip.pdf?src-supplier=Avnet; ComponentLink7URL: http://www.farnell.com/datasheets/1327494.pdf?src-supplier=Element14; ComponentLink7Description: http://www.farnell.com/datasheets/1327494.pdf?src-supplier=Element14; Supplier Part Number 1: 712-1428-1-ND
footprint L0603
pins: 1, 2

## SWPA4030S3R3MT
designator L?, comment 3u3
FIXED IND 3.3UH 20% 2.4A; Manufacturer: Sunlord; Manufacturer Part Number: SWPA4030S3R3MT; DC Resistance (DCR): 52mOhm; Supplier 1: LCSC; RoHS: Yes; Category: Fixed Inductors; Stock 1: 33380; Pricing 1: 10=0,04400, 100=0,03540, 300=0,03110, 2000=0,02700, 4000=0,02450, 10000=0,02330 (USD); RoHS Compliant: Yes; Supplier 2: Digi-Key; Stock 2: 3423; Pricing 2: 1=0,44000, 10=0,38900, 25=0,36120, 50=0,30560, 100=0,27780, 250=0,26108, 500=0,23332, 1000=0,18887 (USD); Supplier Part Number 1: C15269; Supplier Part Number 2: 3442-SWPA4030S3R3MTCT-ND; Current Rating: 2.4A; Inductance: 3.3uH; ComponentLink1Description: Datasheet; ComponentLink1URL: https://datasheet.lcsc.com/lcsc/2110091630_Sunlord-SWPA4030S4R7MT_C57269.pdf; Case/Package: SMD-2
footprint SWPA4030S
pins: 1, 2

## SWPA4030S4R7MT
designator L?, comment 4u7
FIXED IND 4.7UH 20% 2A; Manufacturer: Sunlord; Manufacturer Part Number: SWPA4030S4R7MT; DC Resistance (DCR): 78mOhm; Supplier 1: LCSC; RoHS: Yes; Category: Fixed Inductors; Stock 1: 155260; Pricing 1: 10=0,05200, 100=0,04200, 300=0,03480, 1000=0,02680, 5000=0,02590, 10000=0,02540 (USD); RoHS Compliant: Yes; Supplier 2: Digi-Key; Stock 2: 2525; Pricing 2: 1=0,44000, 10=0,38900, 25=0,36120, 50=0,30560, 100=0,27780, 250=0,26108, 500=0,23332, 1000=0,18887 (USD); Supplier Part Number 1: C57269; Supplier Part Number 2: 3442-SWPA4030S4R7MTCT-ND; ComponentLink1Description: Datasheet; ComponentLink1URL: https://datasheet.lcsc.com/lcsc/2110091630_Sunlord-SWPA4030S4R7MT_C57269.pdf; Inductance: 4.7uH; Current Rating: 2A; Case/Package: SMD-2
footprint SWPA4030S
pins: 1, 2


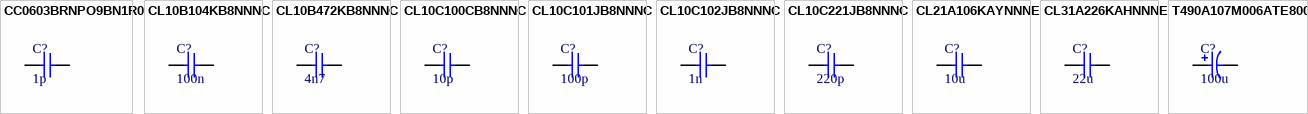
[diagram p6: symbols CC0603BRNPO9BN1R0 to T490A107M006ATE800]

## CC0603BRNPO9BN1R0
designator C?, comment 1p
CAP CER 1PF 50V NPO 0603; Manufacturer: Yageo; Manufacturer Part Number: CC0603BRNPO9BN1R0; Dielectric: C0G; Supplier 1: Digi-Key; RoHS: Yes; Category: Ceramic Capacitors; Stock 1: 35981; Pricing 1: 1=0,10000, 10=0,07700, 50=0,04180, 100=0,03420, 500=0,02442, 1000=0,01919 (USD); Mount: Surface Mount; Case/Package: 0603; Case Code (Imperial): 0603; Case Code (Metric): 1608; Weight: 7.1E-05oz; Min Operating Temperature: -55°C; Max Operating Temperature: 125°C; Capacitance: 1pF; Packaging: Tape and Reel; Voltage Rating: 50V; Voltage Rating (DC): 50V; Termination: SMD/SMT; Resistor Type: Ceramic; Series: CC; Length: 1.6mm; Width: 0.031inch; Thickness: 0.035inch; Depth: 0.8mm; Radiation Hardening: No; Lead Free: Lead Free; RoHS Compliant: Yes; ComponentLink1URL: https://datasheet.ciiva.com/13264/upy-gp-np0-16v-to-50v-8-3714-13264551.pdf?src-supplier=Mouser; ComponentLink1Description: https://datasheet.ciiva.com/13264/upy-gp-np0-16v-to-50v-8-3714-13264551.pdf?src-supplier=Mouser; ComponentLink2URL: https://datasheet.ciiva.com/11587/upy-gp-np0-16v-to-50v-8-11587308.pdf?src-supplier=Avnet; ComponentLink2Description: https://datasheet.ciiva.com/11587/upy-gp-np0-16v-to-50v-8-11587308.pdf?src-supplier=Avnet; Supplier Part Number 1: 311-3346-1-ND
footprint C0603
pins: 1, 2

## CL10B104KB8NNNC
designator C?, comment 100n
CAP CER 100NF 50V X7R 0603; Manufacturer: Samsung; Manufacturer Part Number: CL10B104KB8NNNC; Material: Ceramic; Tolerance: 10%; Supplier 1: Digi-Key; RoHS: Yes; Category: Ceramic Capacitors; Stock 1: 20397829; Pricing 1: 1=0,10000, 10=0,02700, 50=0,01460, 100=0,01200, 500=0,00856, 1000=0,00672 (USD); Mount: Surface Mount; Case/Package: 0603; Case Code (Metric): 1608; Case Code (Imperial): 0603; Contact Plating: Tin; Min Operating Temperature: -55°C; Max Operating Temperature: 125°C; Capacitance: 100nF; Dielectric: X7R; Voltage Rating: 50V; Package Quantity: 1; Packaging: Tape and Reel; Voltage: 50V; Voltage Rating (DC): 50V; Series: CL; Construction: Flat; Length: 1.6mm; Width: 0.031inch; Height: 0.8mm; Depth: 0.8mm; Thickness: 0.035inch; Radiation Hardening: No; Lead Free: Lead Free; RoHS Compliant: Yes; ComponentLink1URL: https://datasheet.ciiva.com/25803/cl10b104kb8nnnc-25803393.pdf?src-supplier=Digi-Key; ComponentLink1Description: https://datasheet.ciiva.com/25803/cl10b104kb8nnnc-25803393.pdf?src-supplier=Digi-Key; ComponentLink2URL: https://datasheet.ciiva.com/26838/getdatasheetpartid-89097-26838411.pdf?src-supplier=Verical; ComponentLink2Description: https://datasheet.ciiva.com/26838/getdatasheetpartid-89097-26838411.pdf?src-supplier=Verical; ComponentLink3URL: https://datasheet.ciiva.com/29198/456651-da-01-en-vs-kondensator-0605-29198839.pdf?src-supplier=Conrad; ComponentLink3Description: https://datasheet.ciiva.com/29198/456651-da-01-en-vs-kondensator-0605-29198839.pdf?src-supplier=Conrad; Supplier Part Number 1: 1276-1000-1-ND
footprint C0603
pins: 1, 2

## CL10B472KB8NNNC
designator C?, comment 4n7
CAP CER 4.7NF 50V X7R 0603; Manufacturer: Samsung; Manufacturer Part Number: CL10B472KB8NNNC; Material: Ceramic; Tolerance: 5%; Dielectric: C0G; Supplier 1: Digi-Key; RoHS: Yes; Category: Ceramic Capacitors; Stock 1: 4684785; Pricing 1: 1=0,10000, 10=0,02700, 50=0,01460, 100=0,01200, 500=0,00856, 1000=0,00672 (USD); Mount: Surface Mount; Case/Package: 0603; Case Code (Metric): 1608; Case Code (Imperial): 0603; Contact Plating: Tin; Min Operating Temperature: -55°C; Max Operating Temperature: 125°C; Capacitance: 4.7nF; Voltage: 50V; Voltage Rating (DC): 50V; Packaging: Tape and Reel; Voltage Rating: 50V; Series: CL; Construction: Flat; Length: 1.6mm; Width: 0.031inch; Height: 0.8mm; Depth: 0.8mm; Thickness: 0.035inch; Radiation Hardening: No; Lead Free: Lead Free; RoHS Compliant: Yes; ComponentLink1URL: https://datasheet.ciiva.com/25709/cl10b472kb8nnnc-25709729.pdf?src-supplier=Digi-Key; ComponentLink1Description: https://datasheet.ciiva.com/25709/cl10b472kb8nnnc-25709729.pdf?src-supplier=Digi-Key; ComponentLink2URL: https://datasheet.ciiva.com/15195/getdatasheetpartid-359559-15195760.pdf?src-supplier=Verical; ComponentLink2Description: https://datasheet.ciiva.com/15195/getdatasheetpartid-359559-15195760.pdf?src-supplier=Verical; ComponentLink3URL: https://datasheet.ciiva.com/29198/457744-da-01-en-vs-kondensator-0603-29198688.pdf?src-supplier=Conrad; ComponentLink3Description: https://datasheet.ciiva.com/29198/457744-da-01-en-vs-kondensator-0603-29198688.pdf?src-supplier=Conrad; ComponentLink4URL: https://datasheet.ciiva.com/26310/mlcc-catalogdownload2013-eng-26310293.pdf?src-supplier=Distrelec; ComponentLink4Description: https://datasheet.ciiva.com/26310/mlcc-catalogdownload2013-eng-26310293.pdf?src-supplier=Distrelec; ComponentLink5URL: https://datasheet.ciiva.com/16382/cl05b104kq5nnnc-16382821.pdf?src-supplier=Future+Electronics; ComponentLink5Description: https://datasheet.ciiva.com/16382/cl05b104kq5nnnc-16382821.pdf?src-supplier=Future+Electronics; Supplier Part Number 1: 1276-1098-1-ND
footprint C0603
pins: 1, 2

## CL10C100CB8NNNC
designator C?, comment 10p
CAP CER 10PF 50V NP0 0603; Manufacturer: Samsung; Manufacturer Part Number: CL10C100CB8NNNC; Material: Ceramic; Dielectric: C0G; Temperature Coefficient: 300ppm/°C; Supplier 1: Digi-Key; RoHS: Yes; Category: Ceramic Capacitors; Stock 1: 241733; Pricing 1: 1=0,10000, 10=0,03000, 50=0,01620, 100=0,01320, 500=0,00944, 1000=0,00742 (USD); Mount: Surface Mount; Case/Package: 0603; Case Code (Metric): 1608; Case Code (Imperial): 0603; Min Operating Temperature: -55°C; Max Operating Temperature: 125°C; Packaging: Tape and Reel; Capacitance: 10pF; Package Quantity: 1; Voltage Rating: 50V; Voltage: 50V; Voltage Rating (DC): 50V; Series: CL; Construction: Flat; Length: 1.6mm; Width: 0.031inch; Height: 0.8mm; Thickness: 0.035inch; Depth: 0.8mm; Radiation Hardening: No; Lead Free: Lead Free; RoHS Compliant: Yes; ComponentLink1URL: https://datasheet.ciiva.com/15195/getdatasheetpartid-558381-15195779.pdf?src-supplier=Verical; ComponentLink1Description: https://datasheet.ciiva.com/15195/getdatasheetpartid-558381-15195779.pdf?src-supplier=Verical; ComponentLink2URL: https://datasheet.ciiva.com/29198/457398-da-01-en-vs-kondensator-0603-29198798.pdf?src-supplier=Conrad; ComponentLink2Description: https://datasheet.ciiva.com/29198/457398-da-01-en-vs-kondensator-0603-29198798.pdf?src-supplier=Conrad; ComponentLink3URL: https://datasheet.ciiva.com/16205/cl05b104kq5nnnc-16205295.pdf?src-supplier=Future+Electronics; ComponentLink3Description: https://datasheet.ciiva.com/16205/cl05b104kq5nnnc-16205295.pdf?src-supplier=Future+Electronics; Supplier Part Number 1: 1276-1069-1-ND
footprint C0603
pins: 1, 2

## CL10C101JB8NNNC
designator C?, comment 100p
CAP CER 100PF 50V NP0 0603; Manufacturer: Samsung; Manufacturer Part Number: CL10C101JB8NNNC; Material: Ceramic; Tolerance: 5%; Dielectric: C0G; Temperature Coefficient: 300ppm/°C; Supplier 1: Digi-Key; RoHS: Yes; Category: Ceramic Capacitors; Stock 1: 901057; Pricing 1: 1=0,10000, 10=0,02700, 50=0,01500, 100=0,01220, 500=0,00874, 1000=0,00686 (USD); Mount: Surface Mount; Case/Package: 0603; Case Code (Metric): 1608; Case Code (Imperial): 0603; Contact Plating: Tin; Min Operating Temperature: -55°C; Max Operating Temperature: 125°C; Capacitance: 100pF; Voltage: 50V; Voltage Rating (DC): 50V; Packaging: Tape and Reel; Package Quantity: 1; Voltage Rating: 50V; Series: CL; Construction: Flat; Length: 1.6mm; Width: 0.031inch; Height: 0.8mm; Depth: 0.8mm; Thickness: 0.035inch; Radiation Hardening: No; Lead Free: Lead Free; RoHS Compliant: Yes; ComponentLink1URL: https://datasheet.ciiva.com/25782/cl10c101jb8nnnc-25782145.pdf?src-supplier=Digi-Key; ComponentLink1Description: https://datasheet.ciiva.com/25782/cl10c101jb8nnnc-25782145.pdf?src-supplier=Digi-Key; ComponentLink2URL: https://datasheet.ciiva.com/26838/getdatasheetpartid-358356-26838483.pdf?src-supplier=Verical; ComponentLink2Description: https://datasheet.ciiva.com/26838/getdatasheetpartid-358356-26838483.pdf?src-supplier=Verical; ComponentLink3URL: https://datasheet.ciiva.com/29199/456574-da-01-en-vs-kondensator-0603-29199002.pdf?src-supplier=Conrad; ComponentLink3Description: https://datasheet.ciiva.com/29199/456574-da-01-en-vs-kondensator-0603-29199002.pdf?src-supplier=Conrad; ComponentLink4URL: https://datasheet.ciiva.com/26310/mlcc-catalogdownload2013-eng-26310303.pdf?src-supplier=Distrelec; ComponentLink4Description: https://datasheet.ciiva.com/26310/mlcc-catalogdownload2013-eng-26310303.pdf?src-supplier=Distrelec; Supplier Part Number 1: 1276-1008-1-ND
footprint C0603
pins: 1, 2